# Altium footprint library DLW21HN121HQ2B.PcbLib: 1 footprints
Each footprint in its own frame and in the unit in brackets; x right, y up, seen from the top. Pads: shape width x height; smd on the part's side, far side on the other; paste and mask are expansions set on the pad; w line width, h text height; cw(c..) or ccw(c..) is an arc to the next point about the centre after c.
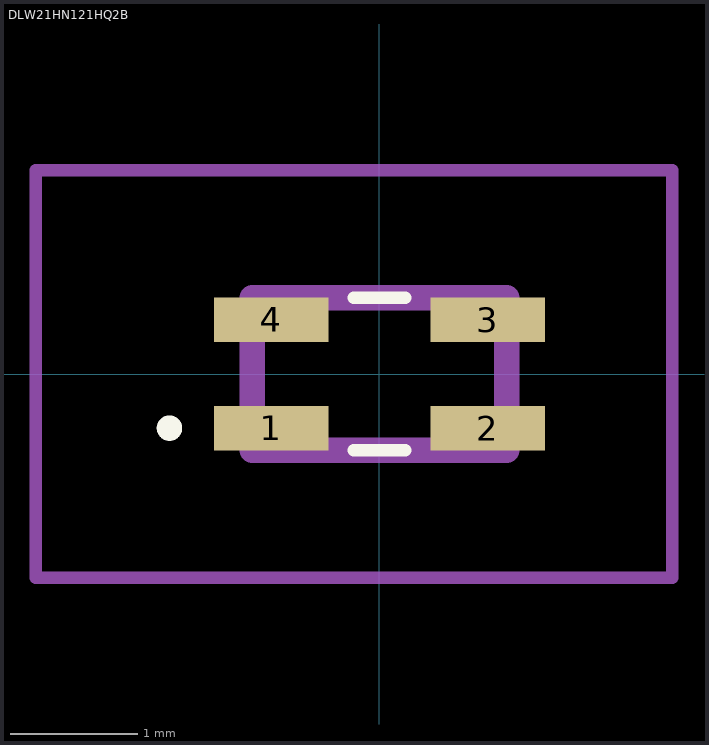
[diagram p0: the footprint, top view; thin cyan lines are the x and y axes]

## DLW21HN121HQ2B [mm]
pads (4):
  rect 0.9x0.35 smd: 1(-0.85,-0.425) 2(0.85,-0.425) 3(0.85,0.425) 4(-0.85,0.425)
Top Overlay:
  lines w0.1: -0.2,-0.6 0.2,-0.6 ; -0.2,0.6 0.2,0.6 ; -1.7,-0.425 ccw(c-1.65,-0.425) -1.6,-0.425 ccw(c-1.65,-0.425) -1.7,-0.425
Mechanical 13:
  lines w0.2: -1,-0.6 -1,0.6 1,0.6 1,-0.6 -1,-0.6
Mechanical 15:
  lines w0.1: -2.7,-1.6 -2.7,1.6 2.3,1.6 2.3,-1.6 -2.7,-1.6
3D body "DLW21HN900SQ2L.stp": height 1.1, standoff 0, extent -1.265,-0.6 1.265,0.6